# Altium schematic symbol library CONN-STD-DISPLAY_PORT_B.SchLib: 1 symbol
Pins are listed as number, name and electrical type; pins without a type are passive.

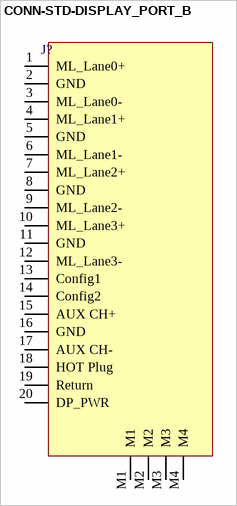
[diagram p0: symbol CONN-STD-DISPLAY_PORT_B]

## CONN-STD-DISPLAY_PORT_B
designator J?  (value not drawn)
pins: 1 ML_Lane0+, 2 GND, 3 ML_Lane0-, 4 ML_Lane1+, 5 GND, 6 ML_Lane1-, 7 ML_Lane2+, 8 GND, 9 ML_Lane2-, 10 ML_Lane3+, 11 GND, 12 ML_Lane3-, 13 Config1, 14 Config2, 15 AUX CH+, 16 GND, 17 AUX CH-, 18 HOT Plug, 19 Return, 20 DP_PWR, M1, M2, M3, M4